# EAGLE library part BB_XQFP_050 (library dp_devices)
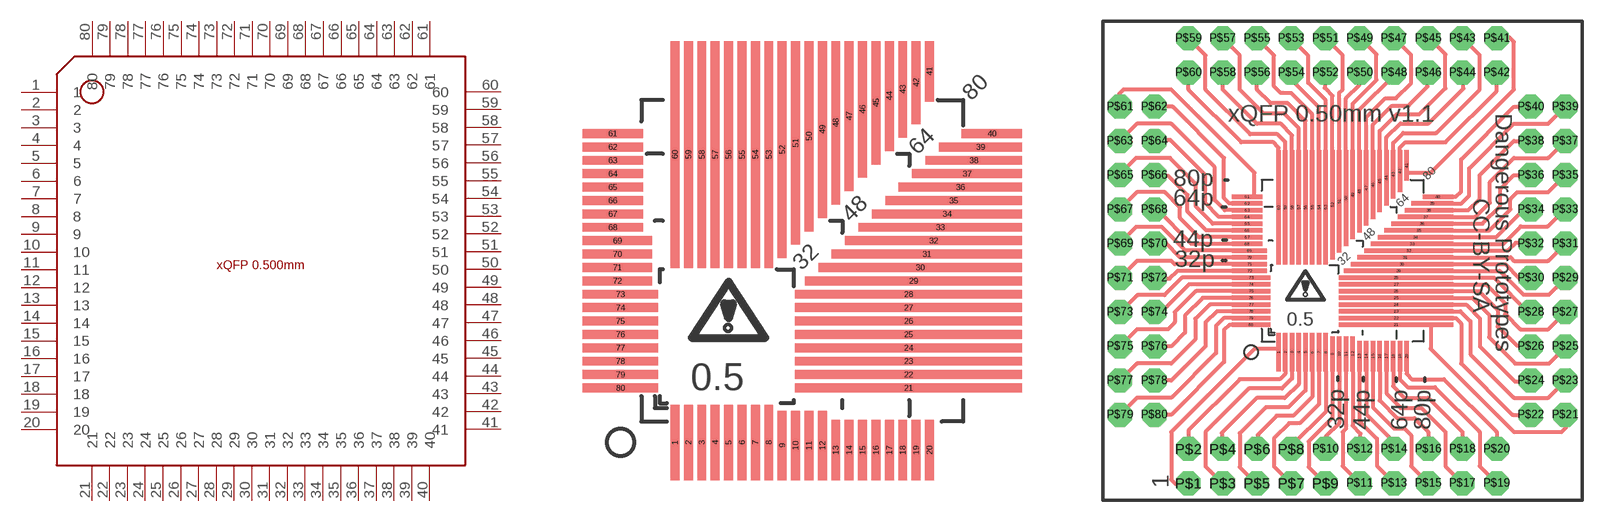
[diagram p122: symbol with the pads of BB_QFP_050; footprints BB_QFP_050, BB_QFP_050_BREAKOUT_BOARD]

Designator prefix -

## BB_XQFP_050  [BB_QFP_050]
1  1
2  2
3  3
4  4
5  5
6  6
7  7
8  8
9  9
10  10
11  11
12  12
13  13
14  14
15  15
16  16
17  17
18  18
19  19
20  20
21  21
22  22
23  23
24  24
25  25
26  26
27  27
28  28
29  29
30  30
31  31
32  32
33  33
34  34
35  35
36  36
37  37
38  38
39  39
40  40
41  41
42  42
43  43
44  44
45  45
46  46
47  47
48  48
49  49
50  50
51  51
52  52
53  53
54  54
55  55
56  56
57  57
58  58
59  59
60  60
61  61
62  62
63  63
64  64
65  65
66  66
67  67
68  68
69  69
70  70
71  71
72  72
73  73
74  74
75  75
76  76
77  77
78  78
79  79
80  80

## BB_XQFP_050BB  [BB_QFP_050_BREAKOUT_BOARD]
P$1  1
P$2  2
P$3  3
P$4  4
P$5  5
P$6  6
P$7  7
P$8  8
P$9  9
P$10  10
P$11  11
P$12  12
P$13  13
P$14  14
P$15  15
P$16  16
P$17  17
P$18  18
P$19  19
P$20  20
P$21  21
P$22  22
P$23  23
P$24  24
P$25  25
P$26  26
P$27  27
P$28  28
P$29  29
P$30  30
P$31  31
P$32  32
P$33  33
P$34  34
P$35  35
P$36  36
P$37  37
P$38  38
P$39  39
P$40  40
P$41  41
P$42  42
P$43  43
P$44  44
P$45  45
P$46  46
P$47  47
P$48  48
P$49  49
P$50  50
P$51  51
P$52  52
P$53  53
P$54  54
P$55  55
P$56  56
P$57  57
P$58  58
P$59  59
P$60  60
P$61  61
P$62  62
P$63  63
P$64  64
P$65  65
P$66  66
P$67  67
P$68  68
P$69  69
P$70  70
P$71  71
P$72  72
P$73  73
P$74  74
P$75  75
P$76  76
P$77  77
P$78  78
P$79  79
P$80  80

## Footprint BB_QFP_050 (pad centres in mm)
QFP 0.5 mm pitch 32p (5mm sq) 48p (7mm sq) 64p (10mm sq) 80p (12mm sq) CC-BY-SA
smd 0.33 x 2.824: 1 -4.75,-6.788; 2 -4.25,-6.788; 3 -3.75,-6.788; 4 -3.25,-6.788; 5 -2.75,-6.788; 6 -2.25,-6.788; 7 -1.75,-6.788; 8 -1.25,-6.788
smd 0.33 x 2.6: 9 -0.75,-6.9; 10 -0.25,-6.9; 11 0.25,-6.9; 12 0.75,-6.9
smd 0.33 x 2.25: 13 1.25,-7.075; 14 1.75,-7.075; 15 2.25,-7.075; 16 2.75,-7.075; 17 3.25,-7.075; 18 3.75,-7.075; 19 4.25,-7.075; 20 4.75,-7.075; 41 4.75,7.075
smd 8.47 x 0.33: 21 3.965,-4.75; 22 3.965,-4.25; 23 3.965,-3.75; 24 3.965,-3.25; 25 3.965,-2.75; 26 3.965,-2.25; 27 3.965,-1.75; 28 3.965,-1.25
smd 8.1 x 0.33: 29 4.15,-0.75
smd 7.6 x 0.33: 30 4.4,-0.25
smd 7.1 x 0.33: 31 4.65,0.25
smd 6.6 x 0.33: 32 4.9,0.75
smd 6.1 x 0.33: 33 5.15,1.25
smd 5.6 x 0.33: 34 5.4,1.75
smd 5.1 x 0.33: 35 5.65,2.25
smd 4.6 x 0.33: 36 5.9,2.75
smd 4.1 x 0.33: 37 6.15,3.25
smd 3.6 x 0.33: 38 6.4,3.75
smd 3.1 x 0.33: 39 6.65,4.25
smd 2.25 x 0.33: 40 7.075,4.75; 61 -7.075,4.75; 62 -7.075,4.25; 63 -7.075,3.75; 64 -7.075,3.25; 65 -7.075,2.75; 66 -7.075,2.25; 67 -7.075,1.75; 68 -7.075,1.25
smd 0.33 x 3.1: 42 4.25,6.65
smd 0.33 x 3.6: 43 3.75,6.4
smd 0.33 x 4.1: 44 3.25,6.15
smd 0.33 x 4.6: 45 2.75,5.9
smd 0.33 x 5.1: 46 2.25,5.65
smd 0.33 x 5.6: 47 1.75,5.4
smd 0.33 x 6.1: 48 1.25,5.15
smd 0.33 x 6.6: 49 0.75,4.9
smd 0.33 x 7.1: 50 0.25,4.65
smd 0.33 x 7.6: 51 -0.25,4.4
smd 0.33 x 8.1: 52 -0.75,4.15
smd 0.33 x 8.47: 53 -1.25,3.965; 54 -1.75,3.965; 55 -2.25,3.965; 56 -2.75,3.965; 57 -3.25,3.965; 58 -3.75,3.965; 59 -4.25,3.965; 60 -4.75,3.965
smd 2.6 x 0.33: 69 -6.9,0.75; 70 -6.9,0.25; 71 -6.9,-0.25; 72 -6.9,-0.75
smd 2.824 x 0.33: 73 -6.788,-1.25; 74 -6.788,-1.75; 75 -6.788,-2.25; 76 -6.788,-2.75; 77 -6.788,-3.25; 78 -6.788,-3.75; 79 -6.788,-4.25; 80 -6.788,-4.75

## Footprint BB_QFP_050_BREAKOUT_BOARD (pad centres in mm)
QFP 0.5 mm pitch 32p (5mm sq) 48p (7mm sq) 64p (10mm sq) 80p (12mm sq) CC-BY-SA
smd 0.33 x 2.824: 1 -4.75,-6.788; 2 -4.25,-6.788; 3 -3.75,-6.788; 4 -3.25,-6.788; 5 -2.75,-6.788; 6 -2.25,-6.788; 7 -1.75,-6.788; 8 -1.25,-6.788
smd 0.33 x 2.6: 9 -0.75,-6.9; 10 -0.25,-6.9; 11 0.25,-6.9; 12 0.75,-6.9
smd 0.33 x 2.25: 13 1.25,-7.075; 14 1.75,-7.075; 15 2.25,-7.075; 16 2.75,-7.075; 17 3.25,-7.075; 18 3.75,-7.075; 19 4.25,-7.075; 20 4.75,-7.075; 41 4.75,7.075
smd 8.47 x 0.33: 21 3.965,-4.75; 22 3.965,-4.25; 23 3.965,-3.75; 24 3.965,-3.25; 25 3.965,-2.75; 26 3.965,-2.25; 27 3.965,-1.75; 28 3.965,-1.25
smd 8.1 x 0.33: 29 4.15,-0.75
smd 7.6 x 0.33: 30 4.4,-0.25
smd 7.1 x 0.33: 31 4.65,0.25
smd 6.6 x 0.33: 32 4.9,0.75
smd 6.1 x 0.33: 33 5.15,1.25
smd 5.6 x 0.33: 34 5.4,1.75
smd 5.1 x 0.33: 35 5.65,2.25
smd 4.6 x 0.33: 36 5.9,2.75
smd 4.1 x 0.33: 37 6.15,3.25
smd 3.6 x 0.33: 38 6.4,3.75
smd 3.1 x 0.33: 39 6.65,4.25
smd 2.25 x 0.33: 40 7.075,4.75; 61 -7.075,4.75; 62 -7.075,4.25; 63 -7.075,3.75; 64 -7.075,3.25; 65 -7.075,2.75; 66 -7.075,2.25; 67 -7.075,1.75; 68 -7.075,1.25
smd 0.33 x 3.1: 42 4.25,6.65
smd 0.33 x 3.6: 43 3.75,6.4
smd 0.33 x 4.1: 44 3.25,6.15
smd 0.33 x 4.6: 45 2.75,5.9
smd 0.33 x 5.1: 46 2.25,5.65
smd 0.33 x 5.6: 47 1.75,5.4
smd 0.33 x 6.1: 48 1.25,5.15
smd 0.33 x 6.6: 49 0.75,4.9
smd 0.33 x 7.1: 50 0.25,4.65
smd 0.33 x 7.6: 51 -0.25,4.4
smd 0.33 x 8.1: 52 -0.75,4.15
smd 0.33 x 8.47: 53 -1.25,3.965; 54 -1.75,3.965; 55 -2.25,3.965; 56 -2.75,3.965; 57 -3.25,3.965; 58 -3.75,3.965; 59 -4.25,3.965; 60 -4.75,3.965
smd 2.6 x 0.33: 69 -6.9,0.75; 70 -6.9,0.25; 71 -6.9,-0.25; 72 -6.9,-0.75
smd 2.824 x 0.33: 73 -6.788,-1.25; 74 -6.788,-1.75; 75 -6.788,-2.25; 76 -6.788,-2.75; 77 -6.788,-3.25; 78 -6.788,-3.75; 79 -6.788,-4.25; 80 -6.788,-4.75
drill 1.016 pad 1.778 octagon: P$1 -11.43,-16.51; P$2 -11.43,-13.97; P$3 -8.89,-16.51; P$4 -8.89,-13.97; P$5 -6.35,-16.51; P$6 -6.35,-13.97; P$7 -3.81,-16.51; P$8 -3.81,-13.97; P$9 -1.27,-16.51; P$10 -1.27,-13.97; P$11 1.27,-16.51; P$12 1.27,-13.97; P$13 3.81,-16.51; P$14 3.81,-13.97; P$15 6.35,-16.51; P$16 6.35,-13.97; P$17 8.89,-16.51; P$18 8.89,-13.97; P$19 11.43,-16.51; P$20 11.43,-13.97; P$21 16.51,-11.43; P$22 13.97,-11.43; P$23 16.51,-8.89; P$24 13.97,-8.89; P$25 16.51,-6.35; P$26 13.97,-6.35; P$27 16.51,-3.81; P$28 13.97,-3.81; P$29 16.51,-1.27; P$30 13.97,-1.27; P$31 16.51,1.27; P$32 13.97,1.27; P$33 16.51,3.81; P$34 13.97,3.81; P$35 16.51,6.35; P$36 13.97,6.35; P$37 16.51,8.89; P$38 13.97,8.89; P$39 16.51,11.43; P$40 13.97,11.43; P$41 11.43,16.51; P$42 11.43,13.97; P$43 8.89,16.51; P$44 8.89,13.97; P$45 6.35,16.51; P$46 6.35,13.97; P$47 3.81,16.51; P$48 3.81,13.97; P$49 1.27,16.51; P$50 1.27,13.97; P$51 -1.27,16.51; P$52 -1.27,13.97; P$53 -3.81,16.51; P$54 -3.81,13.97; P$55 -6.35,16.51; P$56 -6.35,13.97; P$57 -8.89,16.51; P$58 -8.89,13.97; P$59 -11.43,16.51; P$60 -11.43,13.97; P$61 -16.51,11.43; P$62 -13.97,11.43; P$63 -16.51,8.89; P$64 -13.97,8.89; P$65 -16.51,6.35; P$66 -13.97,6.35; P$67 -16.51,3.81; P$68 -13.97,3.81; P$69 -16.51,1.27; P$70 -13.97,1.27; P$71 -16.51,-1.27; P$72 -13.97,-1.27; P$73 -16.51,-3.81; P$74 -13.97,-3.81; P$75 -16.51,-6.35; P$76 -13.97,-6.35; P$77 -16.51,-8.89; P$78 -13.97,-8.89; P$79 -16.51,-11.43; P$80 -13.97,-11.43